# Altium footprint library ESP32-C3_Mini.PcbLib: 2 footprints
Each footprint in its own frame and in the unit in brackets; x right, y up, seen from the top. Pads: shape width x height; smd on the part's side, far side on the other; paste and mask are expansions set on the pad; w line width, h text height; cw(c..) or ccw(c..) is an arc to the next point about the centre after c.
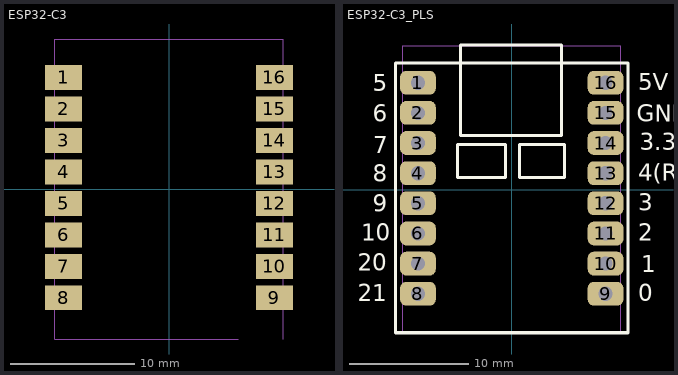
[diagram p0: the footprints below, top view; thin cyan lines are the x and y axes]

## ESP32-C3 [mm]
pads (16):
  rect 3x2 smd: 1(-8.5,9) 2(-8.5,6.46) 3(-8.5,3.92) 4(-8.5,1.38) 5(-8.5,-1.16) 6(-8.5,-3.7) 7(-8.5,-6.24) 8(-8.5,-8.78) 9(8.5,-8.78) 10(8.5,-6.24) 11(8.5,-3.7) 12(8.5,-1.16) 13(8.5,1.38) 14(8.5,3.92) 15(8.5,6.46) 16(8.5,9)
Bottom Assembly:
  lines w0.1: 5.6,-12.1 -9.2,-12.1 -9.2,12.1 9.2,12.1 9.2,0.8 9.2,-0.6 9.2,-12.1
  text "'.Designator'" at -0.975,-0.35 h0.7
3D body "ESP32-C3 SuperMini.SLDPRT": height 3.85, standoff -0.01, extent -9.005,-12 9.005,11.9

## ESP32-C3_PLS [mm]
pads (16):
  rrect50% 3x2 hole 1.2 paste-2539.97 mask-2539.97: 1(-7.9,9) 2(-7.9,6.46) 3(-7.9,3.92) 4(-7.9,1.38) 5(-7.9,-1.16) 6(-7.9,-3.7) 7(-7.9,-6.24) 8(-7.9,-8.78)
  rrect50% 3x2 hole 1.2 paste-2539.97 mask+0.102: 9(7.9,-8.78) 10(7.9,-6.24) 11(7.9,-3.7) 12(7.9,-1.16) 13(7.9,1.38) 14(7.9,3.92) 15(7.9,6.46) 16(7.9,9)
Top Overlay:
  lines w0.254: -9.779,-12.065 9.779,-12.065 9.779,10.668 -9.779,10.668 -9.779,-12.065 ; -4.572,1.016 -0.508,1.016 -0.508,3.81 -4.572,3.81 -4.572,1.016 ; -4.318,4.572 4.191,4.572 4.191,12.192 -4.318,12.192 -4.318,4.572 ; 0.635,1.016 4.445,1.016 4.445,3.81 0.635,3.81 0.635,1.016
  text "5V" at 10.668,8.382 h1.4
  text "GND" at 10.541,5.715 h1.4
  text "3.3V" at 10.795,3.302 h1.4
  text "4(RST)" at 10.668,0.762 h1.4
  text "3" at 10.668,-1.778 h1.4
  text "2" at 10.668,-4.318 h1.4
  text "1" at 10.922,-6.985 h1.4
  text "0" at 10.668,-9.398 h1.4
  text "5" at -11.71,8.272 h1.4
  text "6" at -11.71,5.732 h1.4
  text "7" at -11.684,3.048 h1.4
  text "8" at -11.71,0.652 h1.4
  text "9" at -11.71,-1.888 h1.4
  text "10" at -12.7,-4.318 h1.4
  text "20" at -12.954,-6.858 h1.4
  text "21" at -12.954,-9.398 h1.4
Top Solder:
  drawing of 8 lines, arcs and shapes, not listed
Bottom Solder:
  drawing of 8 lines, arcs and shapes, not listed
Bottom Assembly:
  lines w0.1: 9.144,-12.1 -9.2,-12.1 -9.2,12.1 9.2,12.1 9.2,0.8 9.2,-0.6 9.2,-12.1
  text "'.Designator'" at -0.975,-0.35 h0.7
3D body "ESP32-C3 SuperMini.SLDPRT": height 3.85, standoff -0.01, extent -9.005,-12 9.005,11.9